# EAGLE library part DIT4096 (library ICs)
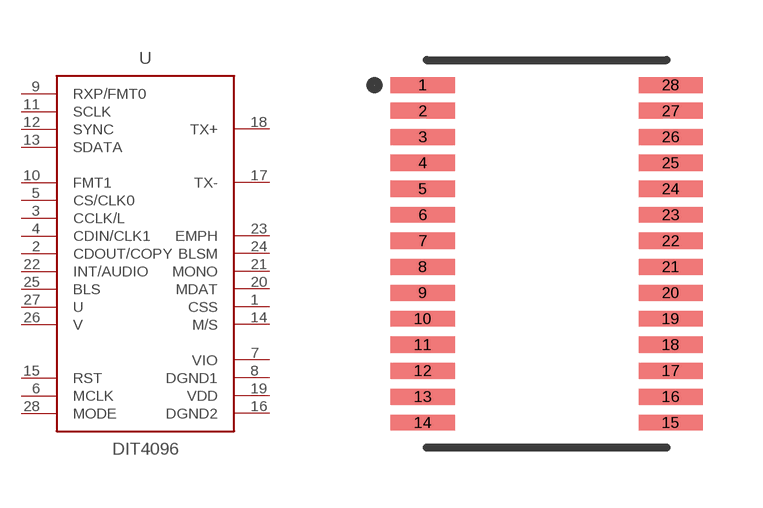
[diagram p30: symbol with the pads of TSSOP28; footprint TSSOP28]

Designator prefix U

## DIT4096 (MFG: Texas Instruments; PN: DIT4096IPW)  [TSSOP28]
1  CSS
2  CDOUT/COPY
3  CCLK/L
4  CDIN/CLK1
5  CS/CLK0
6  MCLK
7  VIO
8  DGND1
9  RXP/FMT0
10  FMT1
11  SCLK
12  SYNC
13  SDATA
14  M/S
15  RST
16  DGND2
17  TX-
18  TX+
19  VDD
20  MDAT
21  MONO
22  INT/AUDIO
23  EMPH
24  BLSM
25  BLS
26  V
27  U
28  MODE

## Footprint TSSOP28 (pad centres in mm)
smd 1.6 x 0.4: 1 -3.1,4.225; 2 -3.1,3.575; 3 -3.1,2.925; 4 -3.1,2.275; 5 -3.1,1.625; 6 -3.1,0.975; 7 -3.1,0.325; 8 -3.1,-0.325; 9 -3.1,-0.975; 10 -3.1,-1.625; 11 -3.1,-2.275; 12 -3.1,-2.925; 13 -3.1,-3.575; 14 -3.1,-4.225; 15 3.1,-4.225; 16 3.1,-3.575; 17 3.1,-2.925; 18 3.1,-2.275; 19 3.1,-1.625; 20 3.1,-0.975; 21 3.1,-0.325; 22 3.1,0.325; 23 3.1,0.975; 24 3.1,1.625; 25 3.1,2.275; 26 3.1,2.925; 27 3.1,3.575; 28 3.1,4.225